# Altium footprint library SDTR-HX-20240126-V2.00.PcbLib: 53 footprints (part 4 of 4)
Each footprint in its own frame and in the unit in brackets; x right, y up, seen from the top. Pads: shape width x height; smd on the part's side, far side on the other; paste and mask are expansions set on the pad; w line width, h text height; cw(c..) or ccw(c..) is an arc to the next point about the centre after c.
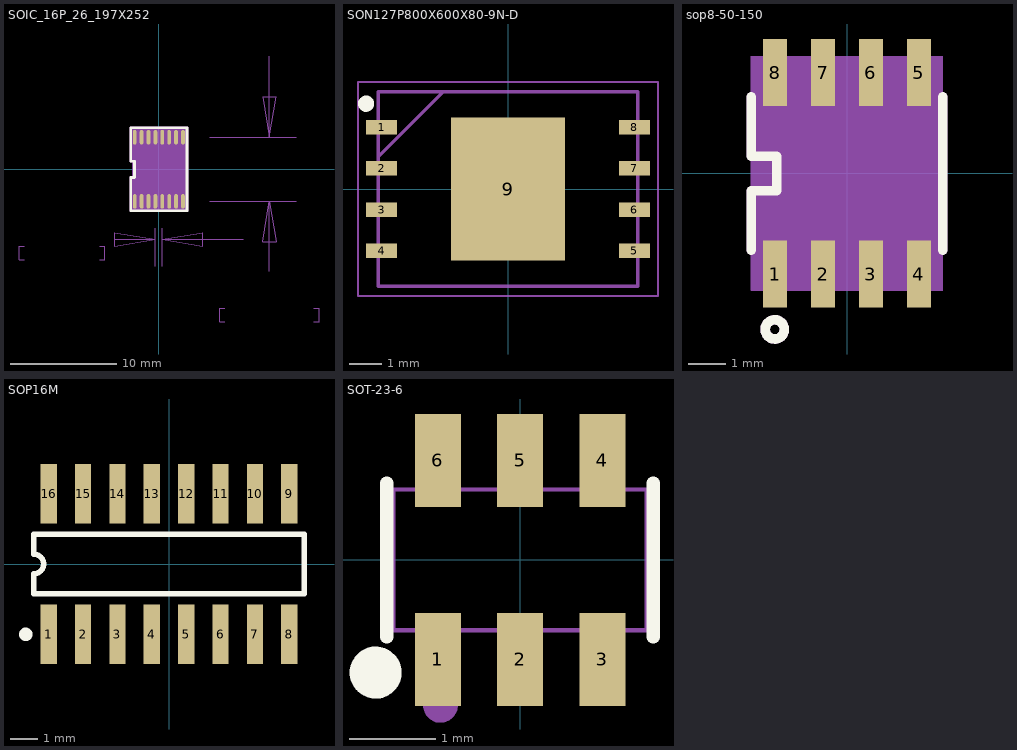
[diagram p3: the footprints below, top view; thin cyan lines are the x and y axes]

## SOIC_16P_26_197X252 [mil] "SOIC_16P_26_197X252"
pads (16):
  oval 14x54 smd: 1(-89.57,-118.98) 2(-63.98,-118.98) 3(-38.39,-118.98) 4(-12.8,-118.98) 5(12.8,-118.98) 6(38.39,-118.98) 7(63.98,-118.98) 8(89.57,-118.98) 9(89.57,118.98) 10(63.98,118.98) 11(38.39,118.98) 12(12.8,118.98) 13(-12.8,118.98) 14(-38.39,118.98) 15(-63.98,118.98) 16(-89.57,118.98)
Top Overlay:
  lines w10: -104.57,-153.98 -94.57,-153.98 104.57,-153.98 104.57,-143.98 104.57,153.98 94.57,153.98 -104.57,153.98 -104.57,30 -90,30 -90,-30 -104.57,-30 -104.57,-153.98
Mechanical 5:
  lines w10: -104.57,-153.98 -94.57,-153.98 104.57,-153.98 104.57,-143.98 104.57,153.98 94.57,153.98 -104.57,153.98 -104.57,30 -90,30 -90,-30 -104.57,-30 -104.57,-153.98
Mechanical 13:
  lines w1: -500,-335 -519,-335 -519,-285 -500,-285 ; -220,-335 -201,-335 -201,-285 -220,-285 ; -163.5,-260 -12.8,-260 ; -12.8,-360 -12.8,-218.98 ; 12.8,-360 12.8,-218.98 ; 189.57,-118.98 510,-118.98 ; 189.57,118.98 510,118.98 ; 244.5,-565 225.5,-565 225.5,-515 244.5,-515 ; 312.8,-260 12.8,-260 ; 410,-377.5 410,-118.98 ; 410,418.98 410,118.98 ; 575.5,-565 594.5,-565 594.5,-515 575.5,-515 ; -12.8,-260 -162.8,-285 -162.8,-235 -12.8,-260 ; 12.8,-260 162.8,-235 162.8,-285 12.8,-260 ; 410,-118.98 435,-268.98 385,-268.98 410,-118.98 ; 410,118.98 385,268.98 435,268.98 410,118.98
  text "0.65" at -455.5,-235 h36
  text "25.59" at -481,-335 h36
  text "6.04" at 314.5,-465 h36
  text "237.97" at 263.5,-565 h36
Mechanical 14:
  text "16" at -67.17,118.98 h28
  text "10" at 86.38,118.98 h28
  text "11" at 60.79,118.98 h28
  text "12" at 35.2,118.98 h28
  text "13" at 9.6,118.98 h28
  text "6" at 49.59,-118.98 h28
  text "7" at 75.18,-118.98 h28
  text "4" at -1.6,-118.98 h28
  text "5" at 24,-118.98 h28
  text "1" at -78.37,-118.98 h28
  text "8" at 100.77,-118.98 h28
  text "9" at 100.77,118.98 h28
  text "2" at -52.78,-118.98 h28
  text "3" at -27.19,-118.98 h28
  text "14" at -15.99,118.98 h28
  text "15" at -41.58,118.98 h28
Mechanical 16:
  pour cut-out: -104.57,153.98 104.57,153.98 104.57,-153.98 -104.57,-153.98 -104.57,-30 -90,-30 -90,30 -104.57,30
  region: -96.65,-125.91 -96.65,-86.61 -98.43,-86.61 -98.43,86.61 -96.65,86.61 -96.65,125.91 -82.48,125.91 -82.48,86.61 -71.06,86.61 -71.06,125.91 -56.89,125.91 -56.89,86.61 -45.47,86.61 -45.47,125.91 -31.3,125.91 -31.3,86.61 -19.88,86.61 -19.88,125.91 -5.71,125.91 -5.71,86.61 5.71,86.61 5.71,125.91 19.88,125.91 19.88,86.61 31.3,86.61 31.3,125.91 45.47,125.91 45.47,86.61 56.89,86.61 56.89,125.91 71.06,125.91 71.06,86.61 82.48,86.61 82.48,125.91 96.65,125.91 96.65,86.61 98.43,86.61 98.43,-86.61 96.65,-86.61 96.65,-125.91 82.48,-125.91 82.48,-86.61 71.06,-86.61 71.06,-125.91 56.89,-125.91 56.89,-86.61 45.47,-86.61 45.47,-125.91 31.3,-125.91 31.3,-86.61 19.88,-86.61 19.88,-125.91 5.71,-125.91 5.71,-86.61 -5.71,-86.61 -5.71,-125.91 -19.88,-125.91 -19.88,-86.61 -31.3,-86.61 -31.3,-125.91 -45.47,-125.91 -45.47,-86.61 -56.89,-86.61 -56.89,-125.91 -71.06,-125.91 -71.06,-86.61 -82.48,-86.61 -82.48,-125.91
3D body: height 150, standoff 0, extent -98.43,-125.91 98.43,125.91

## SON127P800X600X80-9N-D [mm]
pads (9):
  rect 0.95x0.45 smd: 1(-3.9,1.905) 2(-3.9,0.635) 3(-3.9,-0.635) 4(-3.9,-1.905) 5(3.9,-1.905) 6(3.9,-0.635) 7(3.9,0.635) 8(3.9,1.905)
  rect 3.5x4.4 smd: 9(0,0)
Top Overlay:
  circle w0.25: c-4.375,2.63 r0.125
Mechanical 13:
  lines w0.1: -4,1 -2,3 ; -4,-3 4,-3 4,3 -4,3 -4,-3
Mechanical 15:
  lines w0.05: -4.625,-3.3 4.625,-3.3 4.625,3.3 -4.625,3.3 -4.625,-3.3
3D body "MT25QL512ABB1EW9-0SIT.stp": height 0.8, standoff 0, extent -4.05,-3 4.05,3

## sop8-50-150 [mil] "SOP8-50-150"
pads (8):
  rect 25x70 smd: 1(-75,-105) 2(-25,-105) 3(25,-105) 4(75,-105) 5(75,105) 6(25,105) 7(-25,105) 8(-75,105)
Top Overlay:
  circle w10: c-75.23,-162.68 r9.99
  lines w10: -100,-80 -100,-18 -73.09,-18 -73.09,18 -100,18 -100,80 ; 100,-80 100,80
Mechanical 5:
  circle w10: c-75.23,-162.68 r9.99
  lines w10: -100,-80 -100,-18 -73.09,-18 -73.09,18 -100,18 -100,80 ; 100,-80 100,80
  text "U83" at 67.67,-184.95 h25
  text "ACS712_SOP8-50-150_ACS712ELCTR-" at -122.62,217.76 h62.99
Mechanical 14:
  text "5" at 79,105 h10
  text "8" at -71,105 h10
  text "4" at 79,-105 h10
  text "3" at 29,-105 h10
  text "6" at 29,105 h10
  text "2" at -21,-105 h10
  text "1" at -71,-105 h10
  text "7" at -21,105 h10
Mechanical 16:
  region: -100,-122 100,-122 100,122 -100,122
  lines w1: -100,-122 100,-122 100,122 -100,122 -100,-122
3D body: height 150, standoff 0, extent -100,-122 100,122

## SOP16M [mm]
pads (16):
  rect 0.6x2.2 smd: 1(-4.445,-2.6) 2(-3.175,-2.6) 3(-1.905,-2.6) 4(-0.635,-2.6) 5(0.635,-2.6) 6(1.905,-2.6) 7(3.175,-2.6) 8(4.445,-2.6) 9(4.445,2.6) 10(3.175,2.6) 11(1.905,2.6) 12(0.635,2.6) 13(-0.635,2.6) 14(-1.905,2.6) 15(-3.175,2.6) 16(-4.445,2.6)
Top Overlay:
  circle w0.25: c-5.295,-2.6 r0.125
  lines w0.2: -5,-1.1 -5,-0.367 ccw(c-5,0) -5,0.367 -5,1.1 5,1.1 5,-1.1 -5,-1.1

## SOT-23-6 [mm] "GM836-ADJXN6G/TR-SOT-23-6_L2.9-W1.6-P0.95-LS2.8-BL"
pads (6):
  rect 0.532x1.072 smd: 1(-0.95,-1.149) 2(0,-1.149) 3(0.95,-1.149) 4(0.95,1.149) 5(0,1.149) 6(-0.95,1.149)
Top Overlay:
  circle w0.3: c-1.668,-1.301 r0.15
  lines w0.152: -1.539,-0.889 -1.539,0.889 ; 1.539,-0.889 1.539,0.889
Mechanical 6:
  circle w0.2: c-0.92,-1.68 r0.1
Mechanical 15:
  region: -1.165,0.935 -0.735,0.935 -0.735,0.803 -1.165,0.803
  region: -1.165,0.925 -0.735,0.925 -0.735,1.4 -1.165,1.4
  region: -0.215,0.935 0.215,0.935 0.215,0.803 -0.215,0.803
  region: -0.215,0.925 0.215,0.925 0.215,1.4 -0.215,1.4
  region: 0.735,0.935 1.165,0.935 1.165,0.803 0.735,0.803
  region: 0.735,0.925 1.165,0.925 1.165,1.4 0.735,1.4
  region: 0.735,-0.803 1.165,-0.803 1.165,-0.935 0.735,-0.935
  region: 0.735,-0.925 1.165,-0.925 1.165,-1.4 0.735,-1.4
  region: -0.215,-0.803 0.215,-0.803 0.215,-0.935 -0.215,-0.935
  region: -0.215,-0.925 0.215,-0.925 0.215,-1.4 -0.215,-1.4
  region: -1.165,-0.803 -0.735,-0.803 -0.735,-0.935 -1.165,-0.935
  region: -1.165,-0.925 -0.735,-0.925 -0.735,-1.4 -1.165,-1.4
  region: -1.403,-1.4 -1.403,-1.375 -1.438,-1.34 -1.488,-1.34 -1.523,-1.375 -1.523,-1.4 -1.523,-1.425 -1.488,-1.46 -1.438,-1.46 -1.403,-1.425 -1.403,-1.4
  lines w0.051: -1.463,-0.813 -1.463,0.813 1.463,0.813 1.463,-0.813 -1.463,-0.813